# Altium footprint library composants actifs.pcblib: 51 footprints (part 2 of 4)
Each footprint in its own frame and in the unit in brackets; x right, y up, seen from the top. Pads: shape width x height; smd on the part's side, far side on the other; paste and mask are expansions set on the pad; w line width, h text height; cw(c..) or ccw(c..) is an arc to the next point about the centre after c.
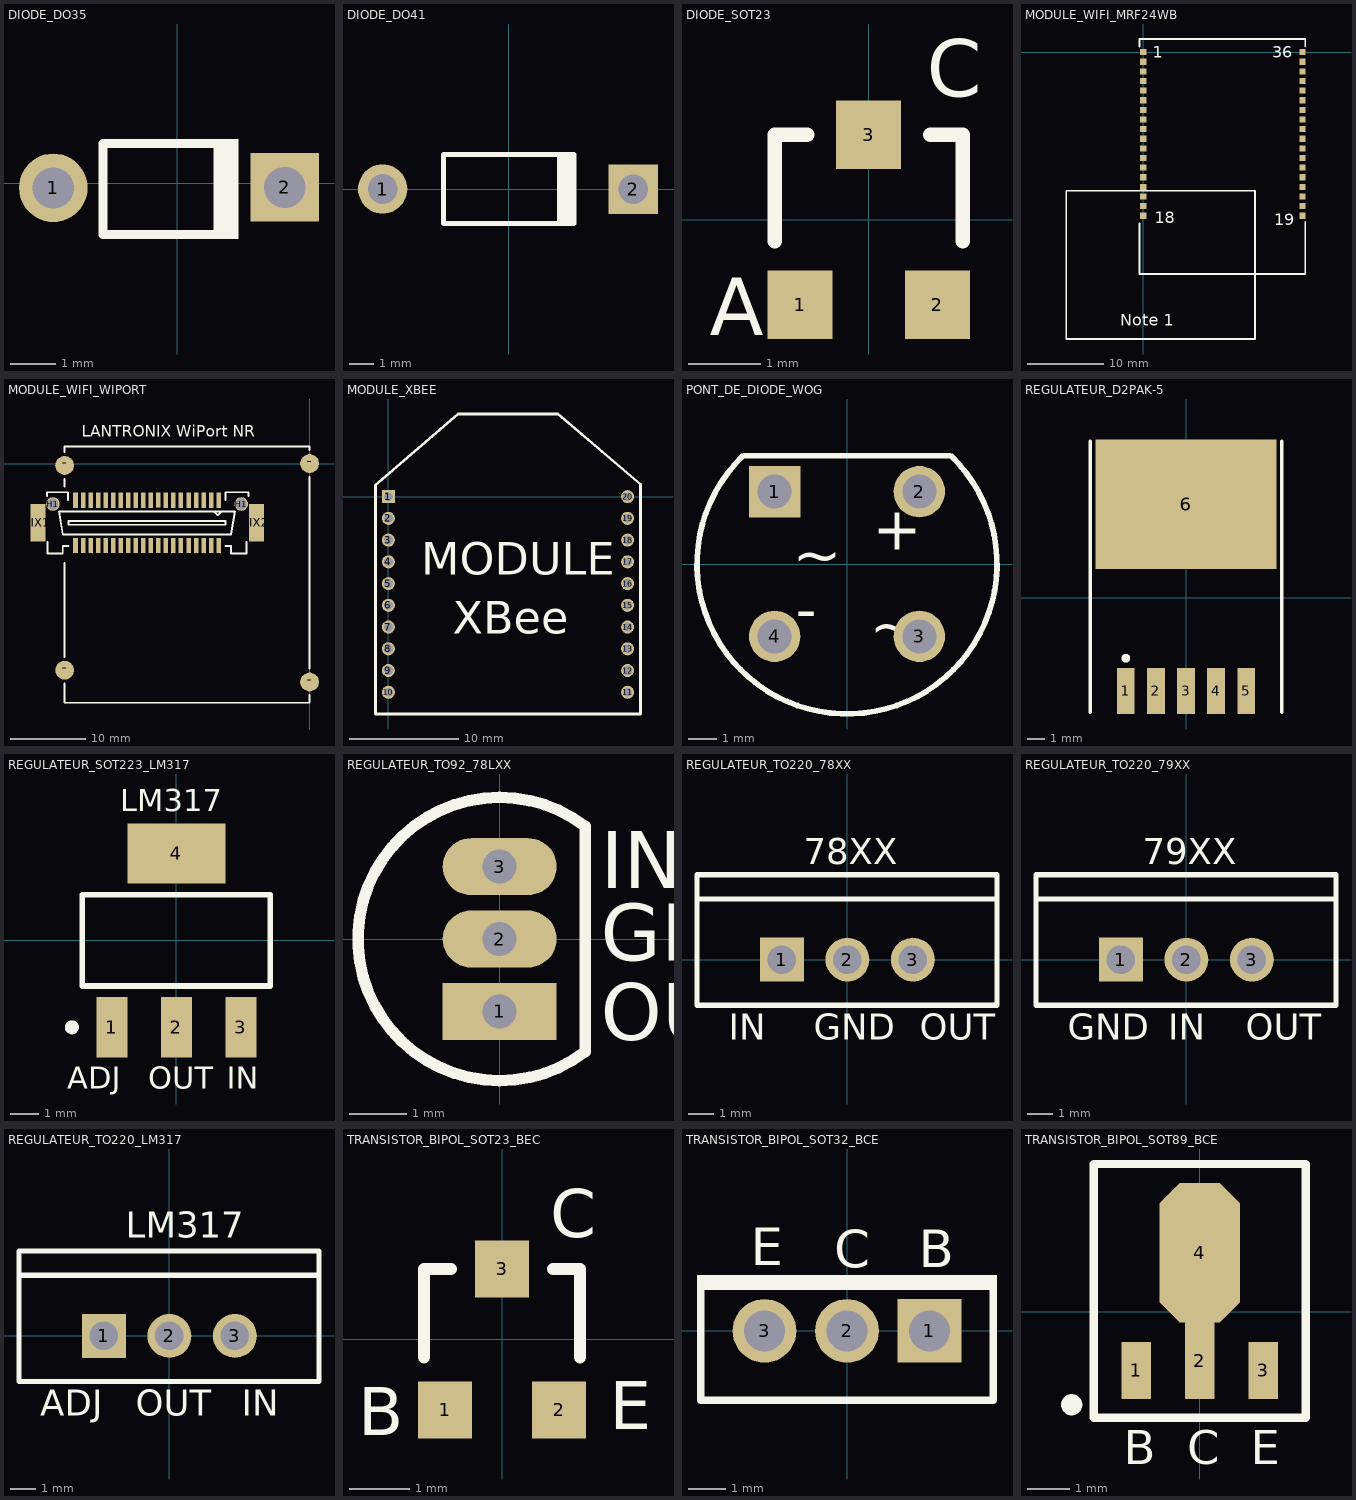
[diagram p1: the footprints below, top view; thin cyan lines are the x and y axes]

## DIODE_DO35 [mm] "DIODE DO35 ; DIMENSIONS : 3.8mm x 1.9mm ; PERCAGE : 0.6mm"
height 1.9
pads (2):
  round 1.5 hole 0.9: 1(-2.71,-0.1)
  rect 1.5x1.5 hole 0.9: 2(2.35,-0.09)
Top Overlay:
  rectangle: 0.79,-1.22 1.34,0.97
  lines w0.2: 1.06,-1.12 -1.62,-1.12 -1.62,0.87 1.24,0.87
3D body: height 1.83, standoff -1, extent -2.956,-0.95 2.556,0.7

## DIODE_DO41 [mm] "DIODE DO41 ; DIMENSIONS : 5.2mm x 2.7mm ; PERCAGE : 0.8mm"
height 2.8
pads (2):
  round 2 hole 1.2: 1(-5.11,0)
  rect 2x2 hole 1.2: 2(5.05,-0.01)
Top Overlay:
  rectangle: 1.95,-1.4 2.75,1.4
  lines w0.2: 2.65,-1.4 -2.65,-1.4 -2.65,1.4 2.65,1.4
3D body: height 2.55, standoff -2.54, extent -5.471,-1.285 5.451,1.28

## DIODE_SOT23 [mm] "SOT23 ; DIMENSIONS : 3.0mm x 2.5 mm"
height 1.2
pads (3):
  rect 0.9x0.95 smd: 1(-0.95,-1.175) 2(0.95,-1.175) 3(0,1.175)
Top Overlay:
  lines w0.2: -1.3,-0.3 -1.3,1.175 -0.85,1.175 ; 0.85,1.175 1.3,1.175 1.3,-0.3
  text "A" at -2.2,-1.6 h0.8
  text "C" at 0.8,1.7 h0.8
3D body: height 1.1, standoff 0, extent -1.5,-1.569 1.5,1.569

## MODULE_WIFI_MRF24WB [mm]
pads (36):
  rect 0.85x0.8 smd: 1(0,0) 2(0,-1.27) 3(0,-2.54) 4(0,-3.81) 5(0,-5.08) 6(0,-6.35) 7(0,-7.62) 8(0,-8.89) 9(0,-10.16) 10(0,-11.43) 11(0,-12.7) 12(0,-13.97) 13(0,-15.24) 14(0,-16.51) 15(0,-17.78) 16(0,-19.05) 17(0,-20.32) 18(0,-21.59) 19(21,-21.59) 20(21,-20.32) 21(21,-19.05) 22(21,-17.78) 23(21,-16.51) 24(21,-15.24) 25(21,-13.97) 26(21,-12.7) 27(21,-11.43) 28(21,-10.16) 29(21,-8.89) 30(21,-7.62) 31(21,-6.35) 32(21,-5.08) 33(21,-3.81) 34(21,-2.54) 35(21,-1.27) 36(21,0)
Top Overlay:
  lines w0.254: -0.508,-29.27 21.336,-29.27 ; -0.508,-29.21 -0.508,-22.606 ; -0.508,0.762 -0.508,1.73 21.36,1.73 21.36,0.762 ; 21.36,-29.27 21.36,-22.4 ; -10.16,-37.846 -10.16,-18.288 14.732,-18.288 14.732,-37.846 -10.16,-37.846
  text "36" at 17.018,-0.762 h1.52
  text "19" at 17.272,-22.86 h1.52
  text "18" at 1.524,-22.606 h1.52
  text "1" at 1.27,-0.762 h1.52
  text "Note 1" at -3.048,-36.068 h1.52

## MODULE_WIFI_WIPORT [mm] "Plug Straight with Vacuum pick up clip; 40 Position; Male; Pin spacing=1.00mm"
height 5
pads (48):
  rect 0.6x2 smd: 1(-12.068,-4.874) 2(-12.068,-10.874) 3(-13.068,-4.874) 4(-13.068,-10.874) 5(-14.068,-4.874) 6(-14.068,-10.874) 7(-15.068,-4.874) 8(-15.068,-10.874) 9(-16.068,-4.874) 10(-16.068,-10.874) 11(-17.068,-4.874) 12(-17.068,-10.874) 13(-18.068,-4.874) 14(-18.068,-10.874) 15(-19.068,-4.874) 16(-19.068,-10.874) 17(-20.066,-4.826) 18(-20.068,-10.874) 19(-21.068,-4.874) 20(-21.068,-10.874) 21(-22.068,-4.874) 22(-22.068,-10.874) 23(-23.068,-4.874) 24(-23.068,-10.874) 25(-24.068,-4.874) 26(-24.068,-10.874) 27(-25.068,-4.874) 28(-25.068,-10.874) 29(-26.068,-4.874) 30(-26.068,-10.874) 31(-27.068,-4.874) 32(-27.068,-10.874) 33(-28.068,-4.874) 34(-28.068,-10.874) 35(-29.068,-4.874) 36(-29.068,-10.874) 37(-30.068,-4.874) 38(-30.068,-10.874) 39(-31.068,-4.874) 40(-31.068,-10.874)
  round 2.5 smd: -(-32.512,-27.432) -(-32.512,-0.254) -(0,-29) -(0,0)
  rect 2x5 smd: FIX1(-36.068,-7.874) FIX2(-7.068,-7.874)
  round 1.8 hole 1.4: H1(-34.068,-5.374) H1(-9.068,-5.374)
Top Overlay:
  lines w0.254: -34.878,-4.318 -34.878,-3.81 -32.084,-3.81 -32.084,-4.826 ; -34.798,-10.414 -34.798,-11.938 -32.766,-11.938 -32.766,-10.922 -32.004,-10.922 ; -32.512,-29.21 -32.512,-31.75 0,-31.75 0,-30.734 ; -32.512,-25.654 -32.512,-13.208 ; -32.512,-3.048 -32.512,-2.032 ; -32.512,1.524 -32.512,2.286 0,2.286 0,1.778 ; -12.7,-6.35 -12.192,-6.858 -11.684,-6.35 ; -11.176,-10.922 -10.414,-10.922 -10.414,-11.938 -8.382,-11.938 -8.382,-10.414 ; -11.176,-4.826 -11.176,-3.81 -8.128,-3.81 -8.128,-4.318 ; 0,-27.178 0,-1.778 ; -33.274,-6.35 -32.766,-9.398 -10.414,-9.398 -9.906,-6.35 -33.274,-6.35 ; -32.004,-8.128 -32.004,-7.62 -11.176,-7.62 -11.176,-8.128 -32.004,-8.128
  text "LANTRONIX WiPort NR" at -30.226,3.556 h1.52

## MODULE_XBEE [mm] "XBee Series 2 OEM RF Modules"
height 9
pads (20):
  rect 1.2x1.2 hole 0.8: 1(0,0)
  round 1.2 hole 0.8: 2(0,-2) 3(0,-4) 4(0,-6) 5(0,-8) 6(0,-10) 7(0,-12) 8(0,-14) 9(0,-16) 10(0,-18) 11(22,-18) 12(22,-16) 13(22,-14) 14(22,-12) 15(22,-10) 16(22,-8) 17(22,-6) 18(22,-4) 19(22,-2) 20(22,0)
Top Overlay:
  lines w0.254: -1.213,1.015 6.4,7.6 15.6,7.6 23.215,1.117 ; -1.2,1 -1.2,0.9 -1.2,-20 23.2,-20 23.2,1.1
  text "XBee" at 5.9,-12.6 h3
  text "MODULE" at 3,-7.2 h3
3D body: height 3.1, standoff -10.49, extent -1.1,-25.2 23.28,7.74

## PONT_DE_DIODE_WOG [mm] "PONT DE DIODE WOG; DIAMETRE : 8.3mm ; ESPACEMENT BROCHES : 5.08mm"
height 6
pads (4):
  rect 1.8x1.8 hole 1.2: 1(-2.54,2.54)
  round 1.8 hole 1.2: 2(2.54,2.54) 3(2.54,-2.54) 4(-2.54,-2.54)
Top Overlay:
  lines w0.2: -3.671,3.77 ccw(c0,0) 3.671,3.77 ; -3.6,3.8 3.6,3.8
  text "+" at 0.9,0.5 h1.5
  text "-" at -1.8,-2.3 h1.5
  text "~" at 0.8,-2.9 h1.5
  text "~" at -1.9,-0.4 h1.5
3D body: height 5.5, standoff -4.1, extent -4.7,-4.6 4.7,4.8

## REGULATEUR_D2PAK-5 [mm] "D2-PAK; 5 Leads; Body 14.7 (inc. leads) x 10.2 mm (LxW max)"
height 4.58
pads (6):
  rect 1x2.6 smd: 1(-3.4,-5.275) 2(-1.7,-5.275) 3(0,-5.275) 4(1.7,-5.275) 5(3.4,-5.275)
  rect 10.2x7.3 smd: 6(0,5.275)
Top Overlay:
  circle w0.25: c-3.4,-3.425 r0.125
  lines w0.2: -5.4,-6.475 -5.4,8.825 ; 5.4,-6.475 5.4,8.825

## REGULATEUR_SOT223_LM317 [mm] "REGULATEUR SOT-223 LM317 ; 4 BROCHES; DIMENSIONS : 6.7mm x 7.3mm"
height 1.8
pads (4):
  rect 1.1x2.15 smd: 1(-2.3,-3.1) 2(0,-3.1) 3(2.3,-3.1)
  rect 3.5x2.15 smd: 4(0,3.1)
Top Overlay:
  circle w0.25: c-3.725,-3.1 r0.125
  lines w0.2: -3.35,-1.625 3.35,-1.625 3.35,1.625 -3.35,1.625 -3.35,-1.625
  text "ADJ" at -3.9,-5.3 h0.8
  text "OUT" at -1,-5.3 h0.8
  text "IN" at 1.8,-5.3 h0.8
  text "LM317" at -2,4.6 h0.8
3D body: height 1.64, standoff -0.01, extent -3.25,-3.64 3.25,3.36

## REGULATEUR_TO92_78LXX [mm] "REGULATEUR TO92 ; 3 BROCHES EN LIGNE; DIAMETRE CORPS : 4.5mm ; BROCHES : 0.51mm x 0.48mm"
height 6.86
pads (3):
  rect 2x1 hole 0.6: 1(0,-1.27)
  oval 2x1 hole 0.6: 2(0,0) 3(0,1.27)
Top Overlay:
  lines w0.2: 1.5,-1.98 cw(c0,0) 1.5,1.98 1.5,-1.98
  text "OUT" at 1.778,-1.778 h1
  text "IN" at 1.778,0.889 h1
  text "GND" at 1.778,-0.381 h1
3D body: height 6, standoff -5, extent -2.43,-2.4 1.5,2.4

## REGULATEUR_TO220_78XX [mm] "BOITIER TO220 ; DIMENSIONS : 11.2mm x 4.7mm ; ESPACEMENT BROCHES : 2.54 mm"
height 22.9
pads (3):
  rect 1.7x1.7 hole 1.1: 1(-2.54,0)
  round 1.7 hole 1.1: 2(0,0) 3(2.54,0)
Top Overlay:
  lines w0.2: -5.83,2.35 5.8,2.35 ; -5.83,-1.77 5.8,-1.77 5.8,3.29 -5.83,3.29 -5.83,-1.77
  text "IN" at -4.6,-3.1 h1
  text "GND" at -1.3,-3.1 h1
  text "OUT" at 2.8,-3.1 h1
  text "78XX" at -1.7,3.7 h1
3D body: height 19.33, standoff -10, extent -5.607,-1.59 5.607,3.1

## REGULATEUR_TO220_79XX [mm] "BOITIER TO220 ; DIMENSIONS : 11.2mm x 4.7mm ; ESPACEMENT BROCHES : 2.54 mm"
height 22.9
pads (3):
  rect 1.7x1.7 hole 1.1: 1(-2.54,0)
  round 1.7 hole 1.1: 2(0,0) 3(2.54,0)
Top Overlay:
  lines w0.2: -5.83,2.35 5.8,2.35 ; -5.83,-1.77 5.8,-1.77 5.8,3.29 -5.83,3.29 -5.83,-1.77
  text "GND" at -4.6,-3.1 h1
  text "IN" at -0.7,-3.1 h1
  text "OUT" at 2.3,-3.1 h1
  text "79XX" at -1.7,3.7 h1
3D body: height 19.33, standoff -10, extent -5.607,-1.59 5.607,3.1

## REGULATEUR_TO220_LM317 [mm] "BOITIER TO220 ; DIMENSIONS : 11.2mm x 4.7mm ; ESPACEMENT BROCHES : 2.54 mm"
height 22.9
pads (3):
  rect 1.7x1.7 hole 1.1: 1(-2.54,0)
  round 1.7 hole 1.1: 2(0,0) 3(2.54,0)
Top Overlay:
  lines w0.2: -5.83,2.35 5.8,2.35 ; -5.83,-1.77 -5.83,3.29 5.8,3.29 5.8,-1.77 -5.83,-1.77
  text "LM317" at -1.7,3.8 h1
  text "IN" at 2.8,-3.1 h1
  text "OUT" at -1.3,-3.1 h1
  text "ADJ" at -5,-3.1 h1
3D body: height 19.33, standoff -10, extent -5.607,-1.59 5.607,3.1

## TRANSISTOR_BIPOL_SOT23_BEC [mm] "SOT23 ; DIMENSIONS : 3.0mm x 2.5 mm"
height 1.2
pads (3):
  rect 0.9x0.95 smd: 1(-0.95,-1.175) 2(0.95,-1.175) 3(0,1.175)
Top Overlay:
  lines w0.2: -1.3,-0.3 -1.3,1.175 -0.85,1.175 ; 0.85,1.175 1.3,1.175 1.3,-0.3
  text "B" at -2.4,-1.6 h0.8
  text "E" at 1.8,-1.5 h0.8
  text "C" at 0.8,1.7 h0.8
3D body: height 1.1, standoff 0, extent -1.5,-1.569 1.5,1.569

## TRANSISTOR_BIPOL_SOT32_BCE [mm] "BOITIER SOT32 ; DIMENSIONS : 10.7mm x 7.6mm x 2.6mm ; ESPACEMENT BROCHES : 2.2mm"
height 13.4
pads (3):
  rect 1.7x1.7 hole 1.1: 1(2.2,0)
  round 1.7 hole 1.1: 2(0,0) 3(-2.2,0)
Top Overlay:
  rectangle: -4,1.09 4,1.49
  lines w0.2: -3.9,1.32 -3.9,-1.85 3.9,-1.85 3.9,1.32
  text "E" at -2.56,1.75 h1
  text "C" at -0.34,1.69 h1
  text "B" at 1.91,1.7 h1
3D body: height 13.6, standoff -4.35, extent -3.93,-1.68 3.87,1.02

## TRANSISTOR_BIPOL_SOT89_BCE [mm] "TRANSISTOR SOT-89 ; DIMENSIONS : 4.6mm x 4.25mm"
height 1.6
pads (4):
  rect 0.7x1.35 smd: 1(-1.5,-1.388) 3(1.5,-1.388)
  rect 0.7x1.8 smd: 2(0,-1.162)
  oct 1.9x3.3 smd: 4(0,1.388)
Top Overlay:
  circle w0.25: c-3.025,-2.2 r0.125
  lines w0.2: -2.5,-2.512 2.5,-2.512 2.5,3.487 -2.5,3.487 -2.5,-2.512
  text "E" at 1.2,-3.6 h0.8
  text "C" at -0.3,-3.6 h0.8
  text "B" at -1.8,-3.6 h0.8
3D body: height 1.59, standoff -0.02, extent -2.32,-1.63 2.28,2.62